# Altium integrated library SIM7000.IntLib: 1 symbol
Pins are listed as number, name and electrical type; pins without a type are passive.

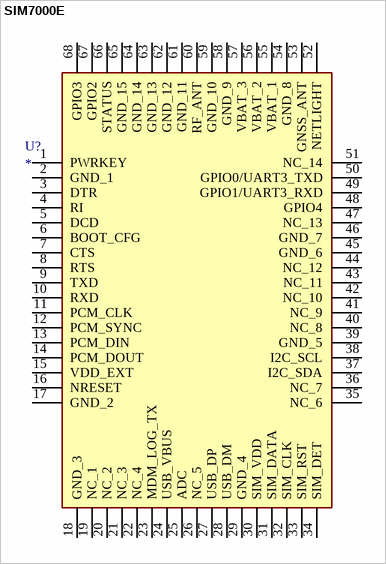
[diagram p0: symbol SIM7000E]

## SIM7000E
designator U?
Undefined or Miscellaneous; Manufacturer_Name: SIMCOM; Manufacturer_Part_Number: SIM7000E; Datasheet Link: https://drive.google.com/open?id=0BxaK5JJRKaO1MnVyaHBDdWx0NWc
footprint SIM7000
pins: 1 PWRKEY, 2 GND_1, 3 DTR, 4 RI, 5 DCD, 6 BOOT_CFG, 7 CTS, 8 RTS, 9 TXD, 10 RXD, 11 PCM_CLK, 12 PCM_SYNC, 13 PCM_DIN, 14 PCM_DOUT, 15 VDD_EXT, 16 NRESET, 17 GND_2, 18 GND_3, 19 NC_1, 20 NC_2, 21 NC_3, 22 NC_4, 23 MDM_LOG_TX, 24 USB_VBUS, 25 ADC, 26 NC_5, 27 USB_DP, 28 USB_DM, 29 GND_4, 30 SIM_VDD, 31 SIM_DATA, 32 SIM_CLK, 33 SIM_RST, 34 SIM_DET, 35 NC_6, 36 NC_7, 37 I2C_SDA, 38 I2C_SCL, 39 GND_5, 40 NC_8, 41 NC_9, 42 NC_10, 43 NC_11, 44 NC_12, 45 GND_6, 46 GND_7, 47 NC_13, 48 GPIO4, 49 GPIO1/UART3_RXD, 50 GPIO0/UART3_TXD, 51 NC_14, 52 NETLIGHT, 53 GNSS_ANT, 54 GND_8, 55 VBAT_1, 56 VBAT_2, 57 VBAT_3, 58 GND_9, 59 GND_10, 60 RF_ANT, 61 GND_11, 62 GND_12, 63 GND_13, 64 GND_14, 65 GND_15, 66 STATUS, 67 GPIO2, 68 GPIO3